# EAGLE library part LM2623 (library forkbomb19)
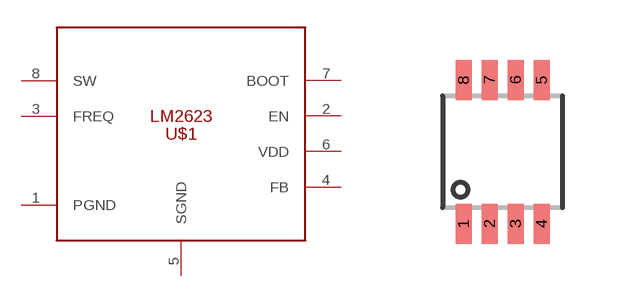
[diagram p4: symbol with the pads of SSOP08; footprint SSOP08]

Designator prefix -

## LM2623  [SSOP08]
1  PGND
2  EN
3  FREQ
4  FB
5  SGND
6  VDD
7  BOOT
8  SW

## Footprint SSOP08 (pad centres in mm)
SMT SSOP 08
smd 0.4 x 1: 1 -0.975,-1.8; 2 -0.325,-1.8; 3 0.325,-1.8; 4 0.975,-1.8; 5 0.975,1.8; 6 0.325,1.8; 7 -0.325,1.8; 8 -0.975,1.8